# Altium footprint library ICs.PcbLib: 132 footprints (part 9 of 9)
Each footprint in its own frame and in the unit in brackets; x right, y up, seen from the top. Pads: shape width x height; smd on the part's side, far side on the other; paste and mask are expansions set on the pad; w line width, h text height; cw(c..) or ccw(c..) is an arc to the next point about the centre after c.
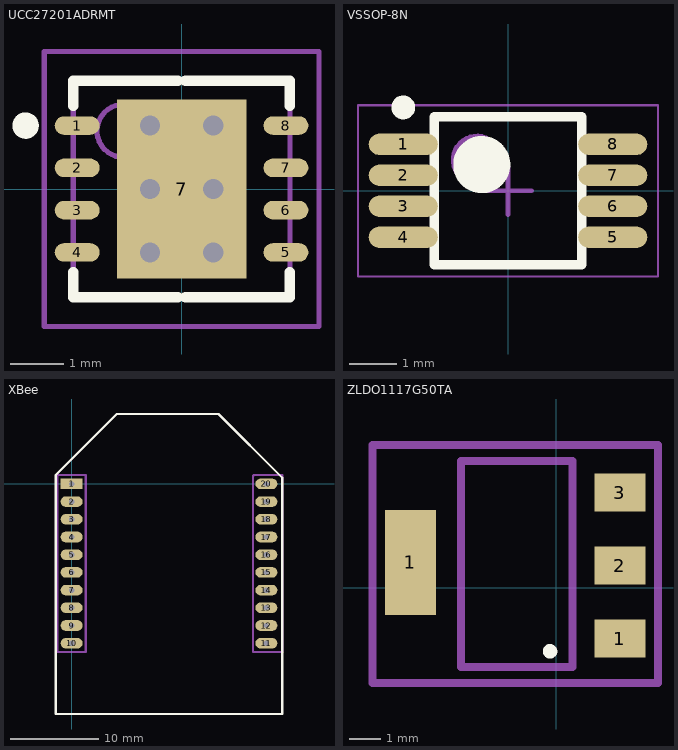
[diagram p8: the footprints below, top view; thin cyan lines are the x and y axes]

## UCC27201ADRMT [mm] "IC DVR HIGH/LOW SIDE 3A 8VSON"
height 1
pads (9):
  oval 0.85x0.35 smd mask+0.07: 1(-1.975,1.2) 2(-1.975,0.4) 3(-1.975,-0.4) 4(-1.975,-1.2) 5(1.975,-1.2) 6(1.975,-0.4) 7(1.975,0.4) 8(1.975,1.2)
  rect 2.45x3.38 smd mask+0.07: 7(0,0)
via 0.6,-1.2 diameter 0.762 hole 0.381
via -0.6,-1.2 diameter 0.762 hole 0.381
via 0.6,0 diameter 0.762 hole 0.381
via -0.6,0 diameter 0.762 hole 0.381
via 0.6,1.2 diameter 0.762 hole 0.381
via -0.6,1.2 diameter 0.762 hole 0.381
Top Overlay:
  circle w0.25: c-2.95,1.2 r0.125
  lines w0.2: -2.05,-1.575 -2.05,-2.05 -0.075,-2.05 ; -2.05,1.575 -2.05,2.05 -0.075,2.05 ; 0.075,-2.05 2.05,-2.05 2.05,-1.575 ; 0.075,2.05 2.05,2.05 2.05,1.575
Mechanical 13:
  circle w0.1: c-1.1,1.1 r0.5
  lines w0.1: -2.05,-2.05 2.05,-2.05 2.05,2.05 -2.05,2.05 -2.05,-2.05
Mechanical 15:
  lines w0.1: -0.5,0 0.5,0 ; 0,-0.5 0,0.5 ; -2.6,-2.6 2.6,-2.6 2.6,2.6 -2.6,2.6 -2.6,-2.6
3D body: height 1, standoff 0.05, extent -2.05,-2.05 2.05,2.05

## VSSOP-8N [mm] "For LMV796"
height 1.1
pads (8):
  oval 1.45x0.45 smd: 1(-2.2,0.975) 2(-2.2,0.325) 3(-2.2,-0.325) 4(-2.2,-0.975) 5(2.2,-0.975) 6(2.2,-0.325) 7(2.2,0.325) 8(2.2,0.975)
Top Overlay:
  circle w0.6: c-0.55,0.55 r0.3
  circle w0.25: c-2.2,1.75 r0.125
  lines w0.2: -1.55,-1.55 1.55,-1.55 1.55,1.55 -1.55,1.55 -1.55,-1.55
Mechanical 13:
  circle w0.1: c-0.65,0.65 r0.5
  lines w0.1: -1.55,-1.55 1.55,-1.55 1.55,1.55 -1.55,1.55 -1.55,-1.55
Mechanical 15:
  lines w0.05: -3.15,-1.8 3.15,-1.8 3.15,1.8 -3.15,1.8 -3.15,-1.8
  lines w0.1: -0.5,0 0.5,0 ; 0,-0.5 0,0.5
3D body: height 1.1, standoff 0.1, extent -1.55,-1.55 1.55,1.55

## XBee [mm]
pads (20):
  rect 2.5x1.2 hole 0.6: 1(0,0)
  oval 2.5x1.2 hole 0.6: 2(0,-2) 3(0,-4) 4(0,-6) 5(0,-8) 6(0,-10) 7(0,-12) 8(0,-14) 9(0,-16) 10(0,-18) 11(22,-18) 12(22,-16) 13(22,-14) 14(22,-12) 15(22,-10) 16(22,-8) 17(22,-6) 18(22,-4) 19(22,-2) 20(22,0)
Top Overlay:
  lines w0.254: 23.3,-26 23.8,-26 ; 23.8,-26 23.8,-18.7 23.8,0.7 ; 23.8,-26 -1.8,-26 -1.8,-25.6 -1.8,-18.6 -1.8,0.7 -1.8,1 5.1,7.9 16.6,7.9 23.8,0.7 ; 23.8,0.7 23.8,0.7
Mechanical 1:
  lines w0.254: -1.6,-19 1.6,-19 1.6,1 -1.5,1 -1.6,1.1 -1.6,-19 ; 20.5,-19 20.5,0.9 20.6,1 23.8,1 23.8,-19 20.5,-19
3D body: height 4, standoff 0, extent 20.5,-19 23.8,1
3D body: height 4, standoff 0, extent -1.9,-19 1.6,1
3D body: height 4.06, standoff 2.8, extent -1.9,-26 23.8,8

## ZLDO1117G50TA [mm]
height 1.6
pads (4):
  rect 1.6x3.3 smd: 1(-4.6,0.8)
  rect 1.6x1.2 smd: 1(2,-1.6) 2(2,0.7) 3(2,3)
Top Overlay:
  circle w0.254: c-0.2,-2 r0.1
Mechanical 13:
  lines w0.254: -3,-2.5 -3,4 0.5,4 0.5,-2.5 -3,-2.5
Mechanical 15:
  lines w0.254: 3.1,-3 -5.8,-3 -5.8,4.5 3.1,4.5 ; 3.2,-3 3.2,4.5
3D body: height 1.6, standoff 0, extent -3.1,-2.6 0.6,4.1